# Altium schematic symbol library SI2323.SchLib: 1 symbol
Pins are listed as number, name and electrical type; pins without a type are passive.

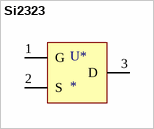
[diagram p0: symbol Si2323]

## Si2323
designator U*
P-MOS SOT23-3
footprint SOT95P235X110-3N (SOT23, 3-Leads, Body 2.90x2.35mm, Pitch 0.95mm, IPC Medium Density)
pins: 1 G, 2 S, 3 D